# Altium footprint library SparkFun-Connectors.PCBLIB: 310 footprints (part 14 of 20)
Each footprint in its own frame and in the unit in brackets; x right, y up, seen from the top. Pads: shape width x height; smd on the part's side, far side on the other; paste and mask are expansions set on the pad; w line width, h text height; cw(c..) or ccw(c..) is an arc to the next point about the centre after c.
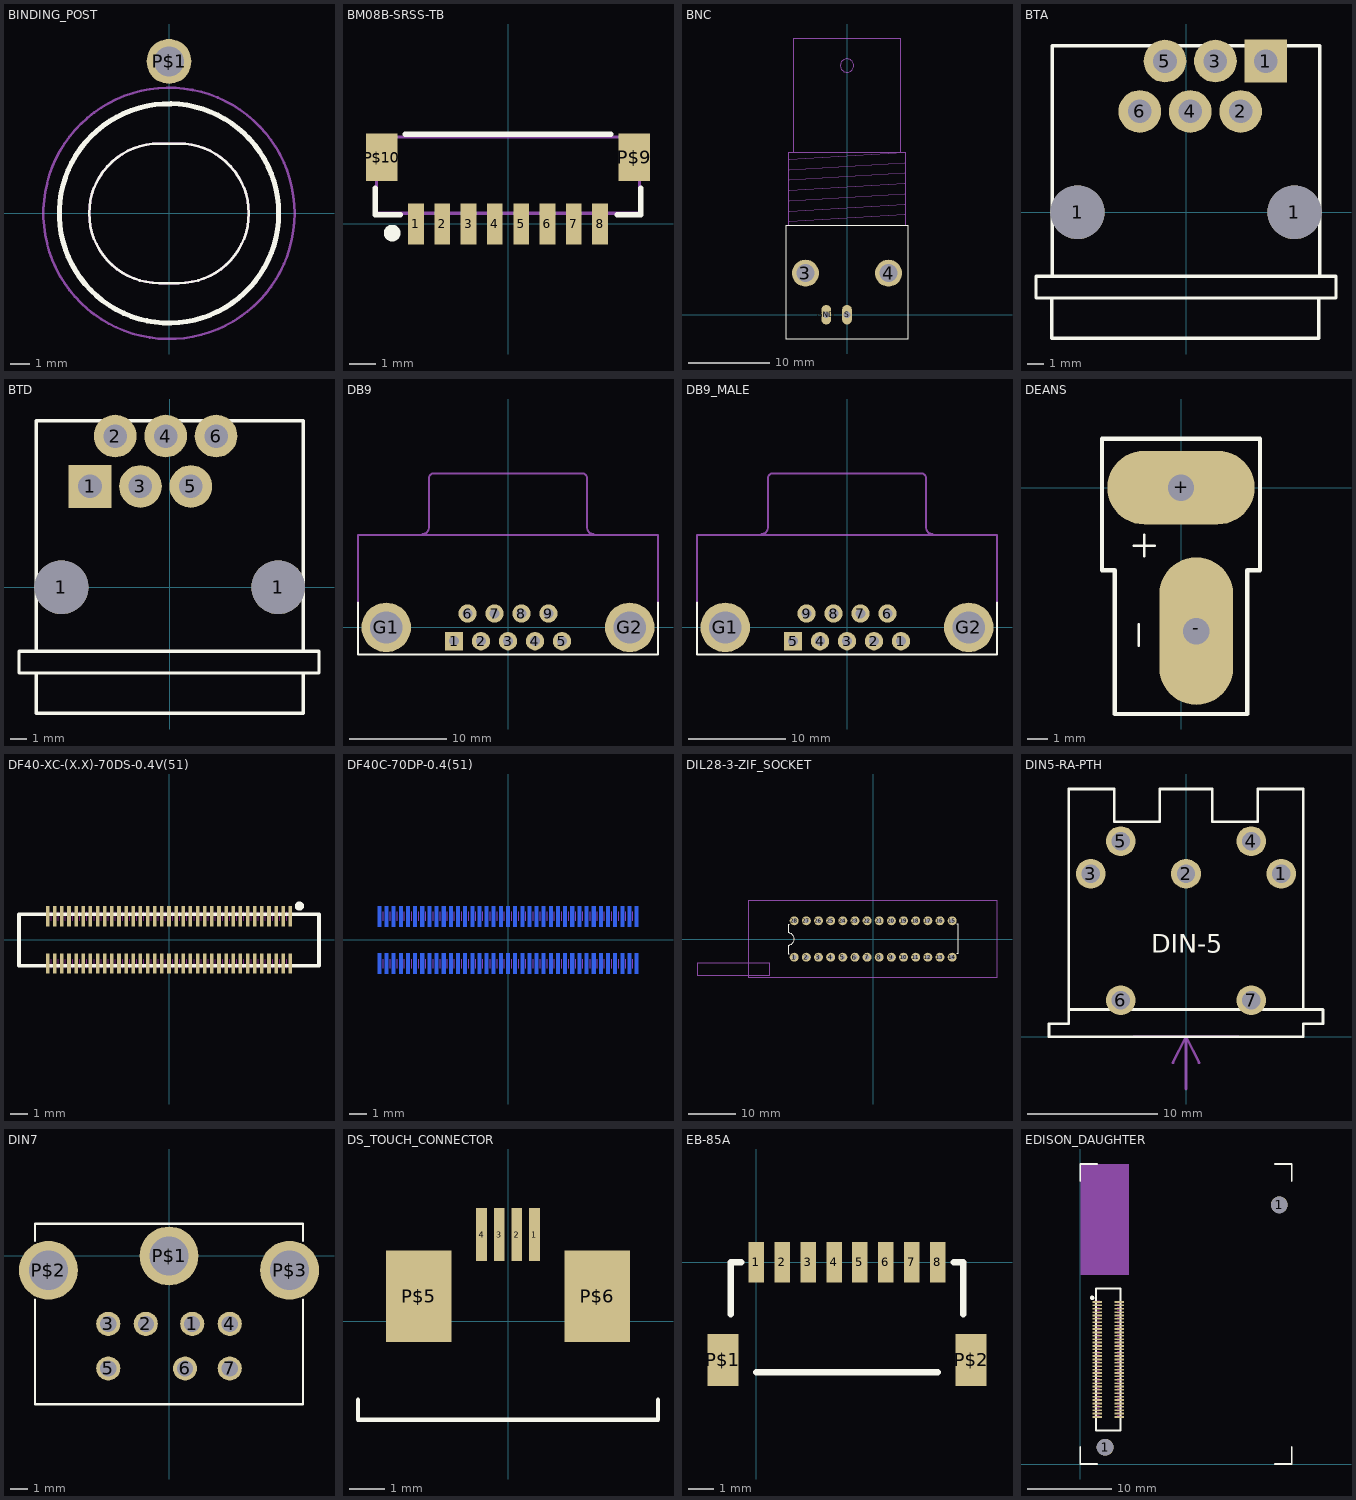
[diagram p13: the footprints below, top view; thin cyan lines are the x and y axes]

## BINDING_POST [mil]
pads (1):
  round 88.59 hole 59.06: P$1(0,300)
Top Overlay:
  circle w10: c0,0 r216.54
  lines w5: -157.48,0 cw(c-19.68,0.01) -19.69,137.8 19.69,137.8 cw(c19.68,0.01) 157.48,0 cw(c19.68,-0.01) 19.69,-137.8 -19.69,-137.8 cw(c-19.68,-0.01) -157.48,0
Mechanical 1:
  lines w5: -157.48,0 cw(c-19.68,0.01) -19.69,137.8 19.69,137.8 cw(c19.68,0.01) 157.48,0 cw(c19.68,-0.01) 19.69,-137.8 -19.69,-137.8 cw(c-19.68,-0.01) -157.48,0
Mechanical 27:
  circle w5: c0,0 r216.54
Mechanical 28:
  circle w5: c0,0 r248.06

## BM08B-SRSS-TB [mm]
pads (10):
  rect 0.6x1.55 smd: 1(-3.5,0) 2(-2.5,0) 3(-1.5,0) 4(-0.5,0) 5(0.5,0) 6(1.5,0) 7(2.5,0) 8(3.5,0)
  rect 1.2x1.8 smd: P$9(4.8,2.525) P$10(-4.8,2.525)
Top Overlay:
  circle w0.406: c-4.4,-0.35 r0.112
  lines w0.203: -5.05,1.35 -5.05,0.35 -4.1,0.35 ; -3.9,3.4 3.9,3.4 ; 4.15,0.35 5.05,0.35 5.05,1.35
Mechanical 16:
  lines w0.127: -5,0.4 -5,3.3 5,3.3 5,0.4 -5,0.4

## BNC [mil]
pads (4):
  round 129.91 hole 86.61: 3(-200,200) 4(200,200)
  oval 47.25x94.5 hole 31.5: GND(-100,0) S(0,0)
Top Overlay:
  lines w5: -295,-117 295,-117 295,428 -295,428 -295,-117
Mechanical 16:
  circle w5: c0,1200 r32.2
  lines w5: -280,428 -280,783 -260,783 ; -279,449 279,483 ; -279,499 279,533 ; -279,549 279,583 ; -279,599 279,633 ; -279,649 279,683 ; -279,699 279,733 ; -279,749 279,783 ; 280,428 280,783 279,783 ; -260,783 260,783 ; -260,783 -260,1328 260,1328 260,783 ; 260,783 279,783

## BTA [mm]
pads (8):
  round 3.2 hole 3.2: 1(-6.45,0) 1(6.45,0)
  rect 2.54x2.54 hole 1.4: 1(4.75,9)
  round 2.54 hole 1.4: 2(3.25,6) 3(1.75,9) 4(0.25,6) 5(-1.25,9) 6(-2.75,6)
Top Overlay:
  lines w0.203: -8,-5.1 -8,-7.5 7.9,-7.5 7.9,-5.1 ; -8,-5.1 -8.925,-5.1 -8.925,-3.8 -7.95,-3.8 ; -8,-5.1 7.9,-5.1 ; -7.95,-3.8 -7.95,9.9 7.95,9.9 7.95,-3.8 ; -7.95,-3.8 7.95,-3.8 ; 7.9,-5.1 8.925,-5.1 8.925,-3.8 7.95,-3.8

## BTD [mm]
pads (8):
  round 3.2 hole 3.2: 1(-6.45,0) 1(6.45,0)
  rect 2.54x2.54 hole 1.4: 1(-4.75,6)
  round 2.54 hole 1.4: 2(-3.25,9) 3(-1.75,6) 4(-0.25,9) 5(1.25,6) 6(2.75,9)
Top Overlay:
  lines w0.203: -7.95,-5.1 -8.975,-5.1 -8.975,-3.8 -7.95,-3.8 ; -7.95,-5.1 7.95,-5.1 ; -7.95,-5.1 -7.95,-7.5 7.95,-7.5 7.95,-5.1 ; -7.95,-3.8 -7.95,9.9 7.95,9.9 7.95,-3.8 ; -7.95,-3.8 7.95,-3.8 ; 7.95,-5.1 8.875,-5.1 8.875,-3.8 7.95,-3.8

## DB9 [mil]
pads (11):
  rect 74x74 hole 40: 1(-218.11,-55.91)
  round 74 hole 40: 2(-109.06,-55.91) 3(0,-55.91) 4(109.06,-55.91) 5(218.11,-55.91) 6(-163.39,55.91) 7(-54.33,55.91) 8(54.33,55.91) 9(163.39,55.91)
  round 200 hole 130: G1(-492.13,0) G2(492.13,0)
Top Overlay:
  lines w8: -606.3,100 -606.3,-110.24 606.3,-110.24 606.3,100
Mechanical 16:
  lines w8: -606.3,100.1 -606.3,374.02 606.3,374.02 606.3,100 ; -345,377.32 ccw(c-345,402.32) -320,402.32 -320,602.32 cw(c-300,602.32) -300,622.32 300,622.32 cw(c300,602.32) 320,602.32 320,402.32 ccw(c345,402.32) 345,377.32

## DB9_MALE [mil]
pads (11):
  round 74 hole 40: 1(218.11,-55.91) 2(109.06,-55.91) 3(0,-55.91) 4(-109.06,-55.91) 6(163.39,55.91) 7(54.33,55.91) 8(-54.33,55.91) 9(-163.39,55.91)
  rect 74x74 hole 40: 5(-218.11,-55.91)
  round 200 hole 130: G1(-492.13,0) G2(492.13,0)
Top Overlay:
  lines w8: -606.3,100 -606.3,-110.24 606.3,-110.24 606.3,100
Mechanical 16:
  lines w8: -606.3,100.1 -606.3,374.02 606.3,374.02 606.3,100 ; -345,377.32 ccw(c-345,402.32) -320,402.32 -320,602.32 cw(c-300,602.32) -300,622.32 300,622.32 cw(c300,602.32) 320,602.32 320,402.32 ccw(c345,402.32) 345,377.32

## DEANS [mil]
pads (2):
  oval 280x140 hole 50: +(0,0)
  oval 140x280 hole 50: -(29,-272.5)
Top Overlay:
  lines w5: -90,-110 -50,-110 ; -80,-300 -80,-260 ; -70,-130 -70,-90
  lines w8: -150,-157 -150,93 150,93 150,-157 126,-157 126,-430 -126,-430 -126,-157 -150,-157
Mechanical 1:
  lines w5: -112,-27 112,-27 112,27 -112,27 -112,-27 ; 2,-384 2,-160 56,-160 56,-384 2,-384

## DF40-XC-(X.X)-70DS-0.4V(51) [mm]
pads (70):
  rect 0.2x1.14 smd: 1(6.8,1.32) 2(6.8,-1.32) 3(6.4,1.32) 4(6.4,-1.32) 5(6,1.32) 6(6,-1.32) 7(5.6,1.32) 8(5.6,-1.32) 9(5.2,1.32) 10(5.2,-1.32) 11(4.8,1.32) 12(4.8,-1.32) 13(4.4,1.32) 14(4.4,-1.32) 15(4,1.32) 16(4,-1.32) 17(3.6,1.32) 18(3.6,-1.32) 19(3.2,1.32) 20(3.2,-1.32) 21(2.8,1.32) 22(2.8,-1.32) 23(2.4,1.32) 24(2.4,-1.32) 25(2,1.32) 26(2,-1.32) 27(1.6,1.32) 28(1.6,-1.32) 29(1.2,1.32) 30(1.2,-1.32) 31(0.8,1.32) 32(0.8,-1.32) 33(0.4,1.32) 34(0.4,-1.32) 35(0,1.32) 36(0,-1.32) 37(-0.4,1.32) 38(-0.4,-1.32) 39(-0.8,1.32) 40(-0.8,-1.32) 41(-1.2,1.32) 42(-1.2,-1.32) 43(-1.6,1.32) 44(-1.6,-1.32) 45(-2,1.32) 46(-2,-1.32) 47(-2.4,1.32) 48(-2.4,-1.32) 49(-2.8,1.32) 50(-2.8,-1.32) 51(-3.2,1.32) 52(-3.2,-1.32) 53(-3.6,1.32) 54(-3.6,-1.32) 55(-4,1.32) 56(-4,-1.32) 57(-4.4,1.32) 58(-4.4,-1.32) 59(-4.8,1.32) 60(-4.8,-1.32) 61(-5.2,1.32) 62(-5.2,-1.32) 63(-5.6,1.32) 64(-5.6,-1.32) 65(-6,1.32) 66(-6,-1.32) 67(-6.4,1.32) 68(-6.4,-1.32) 69(-6.8,1.32) 70(-6.8,-1.32)
Top Layer keep-out:
  lines w0.051: -6.6,-1.581 -6.6,-1.069 ; -6.6,1.064 -6.6,1.576 ; -6.2,-1.581 -6.2,-1.069 ; -6.2,1.064 -6.2,1.576 ; -5.8,-1.581 -5.8,-1.069 ; -5.8,1.064 -5.8,1.576 ; -5.4,-1.581 -5.4,-1.069 ; -5.4,1.064 -5.4,1.576 ; -5,-1.581 -5,-1.069 ; -5,1.064 -5,1.576 ; -4.6,-1.581 -4.6,-1.069 ; -4.6,1.064 -4.6,1.576 ; -4.2,-1.581 -4.2,-1.069 ; -4.2,1.064 -4.2,1.576 ; -3.8,-1.581 -3.8,-1.069 ; -3.8,1.064 -3.8,1.576 ; -3.4,-1.581 -3.4,-1.069 ; -3.4,1.064 -3.4,1.576 ; -3,-1.581 -3,-1.069 ; -3,1.064 -3,1.576 ; -2.6,-1.581 -2.6,-1.069 ; -2.6,1.064 -2.6,1.576 ; -2.2,-1.581 -2.2,-1.069 ; -2.2,1.064 -2.2,1.576 ; -1.8,-1.581 -1.8,-1.069 ; -1.8,1.064 -1.8,1.576 ; -1.4,-1.581 -1.4,-1.069 ; -1.4,1.064 -1.4,1.576 ; -1,-1.581 -1,-1.069 ; -1,1.064 -1,1.576 ; -0.6,-1.581 -0.6,-1.069 ; -0.6,1.064 -0.6,1.576 ; -0.2,-1.581 -0.2,-1.069 ; -0.2,1.064 -0.2,1.576 ; 0.2,-1.581 0.2,-1.069 ; 0.2,1.064 0.2,1.576 ; 0.6,-1.581 0.6,-1.069 ; 0.6,1.064 0.6,1.576 ; 1,-1.581 1,-1.069 ; 1,1.064 1,1.576 ; 1.4,-1.581 1.4,-1.069 ; 1.4,1.064 1.4,1.576 ; 1.8,-1.581 1.8,-1.069 ; 1.8,1.064 1.8,1.576 ; 2.2,-1.581 2.2,-1.069 ; 2.2,1.064 2.2,1.576 ; 2.6,-1.581 2.6,-1.069 ; 2.6,1.064 2.6,1.576 ; 3,-1.581 3,-1.069 ; 3,1.064 3,1.576 ; 3.4,-1.581 3.4,-1.069 ; 3.4,1.064 3.4,1.576 ; 3.8,-1.581 3.8,-1.069 ; 3.8,1.064 3.8,1.576 ; 4.2,-1.581 4.2,-1.069 ; 4.2,1.064 4.2,1.576 ; 4.6,-1.581 4.6,-1.069 ; 4.6,1.064 4.6,1.576 ; 5,-1.581 5,-1.069 ; 5,1.064 5,1.576 ; 5.4,-1.581 5.4,-1.069 ; 5.4,1.064 5.4,1.576 ; 5.8,-1.581 5.8,-1.069 ; 5.8,1.064 5.8,1.576 ; 6.2,-1.581 6.2,-1.069 ; 6.2,1.064 6.2,1.576 ; 6.6,-1.581 6.6,-1.069 ; 6.6,1.064 6.6,1.576
Top Overlay:
  circle w0.305: c7.3,1.9 r0.1
  lines w0.203: -8.4,-1.44 8.4,-1.44 8.4,1.44 -8.4,1.44 -8.4,-1.44

## DF40C-70DP-0.4(51) [mm]
pads (74):
  rect 0.2x1.14 smd far side: 1(6.8,1.32) 2(6.8,-1.32) 3(6.4,1.32) 4(6.4,-1.32) 5(6,1.32) 6(6,-1.32) 7(5.6,1.32) 8(5.6,-1.32) 9(5.2,1.32) 10(5.2,-1.32) 11(4.8,1.32) 12(4.8,-1.32) 13(4.4,1.32) 14(4.4,-1.32) 15(4,1.32) 16(4,-1.32) 17(3.6,1.32) 18(3.6,-1.32) 19(3.2,1.32) 20(3.2,-1.32) 21(2.8,1.32) 22(2.8,-1.32) 23(2.4,1.32) 24(2.4,-1.32) 25(2,1.32) 26(2,-1.32) 27(1.6,1.32) 28(1.6,-1.32) 29(1.2,1.32) 30(1.2,-1.32) 31(0.8,1.32) 32(0.8,-1.32) 33(0.4,1.32) 34(0.4,-1.32) 35(0,1.32) 36(0,-1.32) 37(-0.4,1.32) 38(-0.4,-1.32) 39(-0.8,1.32) 40(-0.8,-1.32) 41(-1.2,1.32) 42(-1.2,-1.32) 43(-1.6,1.32) 44(-1.6,-1.32) 45(-2,1.32) 46(-2,-1.32) 47(-2.4,1.32) 48(-2.4,-1.32) 49(-2.8,1.32) 50(-2.8,-1.32) 51(-3.2,1.32) 52(-3.2,-1.32) 53(-3.6,1.32) 54(-3.6,-1.32) 55(-4,1.32) 56(-4,-1.32) 57(-4.4,1.32) 58(-4.4,-1.32) 59(-4.8,1.32) 60(-4.8,-1.32) 61(-5.2,1.32) 62(-5.2,-1.32) 63(-5.6,1.32) 64(-5.6,-1.32) 65(-6,1.32) 66(-6,-1.32) 67(-6.4,1.32) 68(-6.4,-1.32) 69(-6.8,1.32) 70(-6.8,-1.32) NC1(7.2,1.32) NC2(7.2,-1.32) NC3(-7.2,-1.32) NC4(-7.2,1.32)
Bottom Layer keep-out:
  lines w0.051: -7,-1.581 -7,-1.069 ; -7,1.064 -7,1.576 ; -6.6,-1.581 -6.6,-1.069 ; -6.6,1.064 -6.6,1.576 ; -6.2,-1.581 -6.2,-1.069 ; -6.2,1.064 -6.2,1.576 ; -5.8,-1.581 -5.8,-1.069 ; -5.8,1.064 -5.8,1.576 ; -5.4,-1.581 -5.4,-1.069 ; -5.4,1.064 -5.4,1.576 ; -5,-1.581 -5,-1.069 ; -5,1.064 -5,1.576 ; -4.6,-1.581 -4.6,-1.069 ; -4.6,1.064 -4.6,1.576 ; -4.2,-1.581 -4.2,-1.069 ; -4.2,1.064 -4.2,1.576 ; -3.8,-1.581 -3.8,-1.069 ; -3.8,1.064 -3.8,1.576 ; -3.4,-1.581 -3.4,-1.069 ; -3.4,1.064 -3.4,1.576 ; -3,-1.581 -3,-1.069 ; -3,1.064 -3,1.576 ; -2.6,-1.581 -2.6,-1.069 ; -2.6,1.064 -2.6,1.576 ; -2.2,-1.581 -2.2,-1.069 ; -2.2,1.064 -2.2,1.576 ; -1.8,-1.581 -1.8,-1.069 ; -1.8,1.064 -1.8,1.576 ; -1.4,-1.581 -1.4,-1.069 ; -1.4,1.064 -1.4,1.576 ; -1,-1.581 -1,-1.069 ; -1,1.064 -1,1.576 ; -0.6,-1.581 -0.6,-1.069 ; -0.6,1.064 -0.6,1.576 ; -0.2,-1.581 -0.2,-1.069 ; -0.2,1.064 -0.2,1.576 ; 0.2,-1.581 0.2,-1.069 ; 0.2,1.064 0.2,1.576 ; 0.6,-1.581 0.6,-1.069 ; 0.6,1.064 0.6,1.576 ; 1,-1.581 1,-1.069 ; 1,1.064 1,1.576 ; 1.4,-1.581 1.4,-1.069 ; 1.4,1.064 1.4,1.576 ; 1.8,-1.581 1.8,-1.069 ; 1.8,1.064 1.8,1.576 ; 2.2,-1.581 2.2,-1.069 ; 2.2,1.064 2.2,1.576 ; 2.6,-1.581 2.6,-1.069 ; 2.6,1.064 2.6,1.576 ; 3,-1.581 3,-1.069 ; 3,1.064 3,1.576 ; 3.4,-1.581 3.4,-1.069 ; 3.4,1.064 3.4,1.576 ; 3.8,-1.581 3.8,-1.069 ; 3.8,1.064 3.8,1.576 ; 4.2,-1.581 4.2,-1.069 ; 4.2,1.064 4.2,1.576 ; 4.6,-1.581 4.6,-1.069 ; 4.6,1.064 4.6,1.576 ; 5,-1.581 5,-1.069 ; 5,1.064 5,1.576 ; 5.4,-1.581 5.4,-1.069 ; 5.4,1.064 5.4,1.576 ; 5.8,-1.581 5.8,-1.069 ; 5.8,1.064 5.8,1.576 ; 6.2,-1.581 6.2,-1.069 ; 6.2,1.064 6.2,1.576 ; 6.6,-1.581 6.6,-1.069 ; 6.6,1.064 6.6,1.576 ; 7,-1.581 7,-1.069 ; 7,1.064 7,1.576
Bottom Overlay:
  circle w0.305: c7.7,1.9 r0.1
  lines w0.203: -8.4,-1.44 8.4,-1.44 8.4,1.44 -8.4,1.44 -8.4,-1.44

## DIL28-3-ZIF_SOCKET [mil]
pads (28):
  round 74 hole 40: 1(-650,-150) 2(-550,-150) 3(-450,-150) 4(-350,-150) 5(-250,-150) 6(-150,-150) 7(-50,-150) 8(50,-150) 9(150,-150) 10(250,-150) 11(350,-150) 12(450,-150) 13(550,-150) 14(650,-150) 15(650,150) 16(550,150) 17(450,150) 18(350,150) 19(250,150) 20(150,150) 21(50,150) 22(-50,150) 23(-150,150) 24(-250,150) 25(-350,150) 26(-450,150) 27(-550,150) 28(-650,150)
Top Overlay:
  lines w8: -690,-120 -700,-120 -700,-50 ccw(c-700,0) -700,50 -700,120 -690,120 ; 690,-120 700,-120 700,120 690,120
Mechanical 16:
  lines w5: -1027.99,-314.96 1019.25,-314.96 1019.25,314.96 -1027.99,314.96 -1027.99,-314.96
  lines w10: -1450,-300 -1450,-200 -850,-200 -850,-300 -1450,-300

## DIN5-RA-PTH [mil]
pads (7):
  round 90 hole 55.12: 1(287.4,492.13) 2(0,492.13) 3(-287.4,492.13) 4(196.85,590.55) 5(-196.85,590.55) 6(-196.85,110.24) 7(196.85,110.24)
Top Overlay:
  lines w8: -354.33,78.74 -354.33,39.37 -413.39,39.37 -413.39,0 354.33,0 354.33,39.37 413.39,39.37 413.39,82.68 354.33,82.68 ; 354.33,82.68 354.33,748.03 216.54,748.03 216.54,649.61 78.74,649.61 78.74,748.03 -78.74,748.03 -78.74,649.61 -216.54,649.61 -216.54,748.03 -354.33,748.03 -354.33,82.68 354.33,82.68
  text "DIN-5" at -105.12,253.54 h56.1
Mechanical 16:
  lines w8: -157.48,0 0,0 ; -39.37,-78.74 0,0 ; 0,-157.48 0,0 ; 39.37,-78.74 0,0 ; 157.48,0 0,0
  text "BOARD EDGE" at 0,-170 h27.2

## DIN7 [mil]
pads (10):
  round 53.15 hole 35.43: 1(51.18,-149.61) 2(-51.18,-149.61) 3(-133.86,-149.61) 4(133.86,-149.61) 5(-133.86,-248.03) 6(35.43,-248.03) 7(133.86,-248.03)
  round 129.91 hole 86.61: P$1(0,0) P$2(-265.75,-31.5) P$3(265.75,-31.5)
Top Overlay:
  lines w5: -295.28,-96.46 -295.28,-326.77 295.28,-326.77 295.28,-96.46 ; -295.28,33.46 -295.28,70.87 295.28,70.87 295.28,33.46

## DS_TOUCH_CONNECTOR [mm]
pads (6):
  rect 0.3x1.5 smd: 1(0.75,2.45) 2(0.25,2.45) 3(-0.25,2.45) 4(-0.75,2.45)
  rect 1.85x2.6 smd: P$5(-2.525,0.7) P$6(2.525,0.7)
Top Overlay:
  lines w0.127: -4.25,-2.23 -4.25,-2.8 4.25,-2.8 4.25,-2.23

## EB-85A [mm]
pads (10):
  rect 0.6x1.55 smd: 1(0,0) 2(1,0) 3(2,0) 4(3,0) 5(4,0) 6(5,0) 7(6,0) 8(7,0)
  rect 1.2x2 smd: P$1(-1.3,-3.775) P$2(8.3,-3.775)
Top Overlay:
  lines w0.254: -1,-2 -1,0 -0.6,0 ; 0,-4.25 7,-4.25 ; 7.625,0 8,0 8,-2

## EDISON_DAUGHTER [mm]
pads (72):
  rect 1.14x0.2 smd: 1(1.98,19.17) 2(4.62,19.17) 3(1.98,18.77) 4(4.62,18.77) 5(1.98,18.37) 6(4.62,18.37) 7(1.98,17.97) 8(4.62,17.97) 9(1.98,17.57) 10(4.62,17.57) 11(1.98,17.17) 12(4.62,17.17) 13(1.98,16.77) 14(4.62,16.77) 15(1.98,16.37) 16(4.62,16.37) 17(1.98,15.97) 18(4.62,15.97) 19(1.98,15.57) 20(4.62,15.57) 21(1.98,15.17) 22(4.62,15.17) 23(1.98,14.77) 24(4.62,14.77) 25(1.98,14.37) 26(4.62,14.37) 27(1.98,13.97) 28(4.62,13.97) 29(1.98,13.57) 30(4.62,13.57) 31(1.98,13.17) 32(4.62,13.17) 33(1.98,12.77) 34(4.62,12.77) 35(1.98,12.37) 36(4.62,12.37) 37(1.98,11.97) 38(4.62,11.97) 39(1.98,11.57) 40(4.62,11.57) 41(1.98,11.17) 42(4.62,11.17) 43(1.98,10.77) 44(4.62,10.77) 45(1.98,10.37) 46(4.62,10.37) 47(1.98,9.97) 48(4.62,9.97) 49(1.98,9.57) 50(4.62,9.57) 51(1.98,9.17) 52(4.62,9.17) 53(1.98,8.77) 54(4.62,8.77) 55(1.98,8.37) 56(4.62,8.37) 57(1.98,7.97) 58(4.62,7.97) 59(1.98,7.57) 60(4.62,7.57) 61(1.98,7.17) 62(4.62,7.17) 63(1.98,6.77) 64(4.62,6.77) 65(1.98,6.37) 66(4.62,6.37) 67(1.98,5.97) 68(4.62,5.97) 69(1.98,5.57) 70(4.62,5.57)
  round 2 hole 2: 1(2.93,1.98) 1(23.53,30.67)
Top Layer keep-out:
  lines w0.025: 1.663,19.319 2.297,19.319
  lines w0.051: 1.724,5.77 2.236,5.77 ; 1.724,6.17 2.236,6.17 ; 1.724,6.57 2.236,6.57 ; 1.724,6.97 2.236,6.97 ; 1.724,7.37 2.236,7.37 ; 1.724,7.77 2.236,7.77 ; 1.724,8.17 2.236,8.17 ; 1.724,8.57 2.236,8.57 ; 1.724,8.97 2.236,8.97 ; 1.724,9.37 2.236,9.37 ; 1.724,9.77 2.236,9.77 ; 1.724,10.17 2.236,10.17 ; 1.724,10.57 2.236,10.57 ; 1.724,10.97 2.236,10.97 ; 1.724,11.37 2.236,11.37 ; 1.724,11.77 2.236,11.77 ; 1.724,12.17 2.236,12.17 ; 1.724,12.57 2.236,12.57 ; 1.724,12.97 2.236,12.97 ; 1.724,13.37 2.236,13.37 ; 1.724,13.77 2.236,13.77 ; 1.724,14.17 2.236,14.17 ; 1.724,14.57 2.236,14.57 ; 1.724,14.97 2.236,14.97 ; 1.724,15.37 2.236,15.37 ; 1.724,15.77 2.236,15.77 ; 1.724,16.17 2.236,16.17 ; 1.724,16.57 2.236,16.57 ; 1.724,16.97 2.236,16.97 ; 1.724,17.37 2.236,17.37 ; 1.724,17.77 2.236,17.77 ; 1.724,18.17 2.236,18.17 ; 1.724,18.57 2.236,18.57 ; 1.724,18.97 2.236,18.97 ; 4.369,5.77 4.881,5.77 ; 4.369,6.17 4.881,6.17 ; 4.369,6.57 4.881,6.57 ; 4.369,6.97 4.881,6.97 ; 4.369,7.37 4.881,7.37 ; 4.369,7.77 4.881,7.77 ; 4.369,8.17 4.881,8.17 ; 4.369,8.57 4.881,8.57 ; 4.369,8.97 4.881,8.97 ; 4.369,9.37 4.881,9.37 ; 4.369,9.77 4.881,9.77 ; 4.369,10.17 4.881,10.17 ; 4.369,10.57 4.881,10.57 ; 4.369,10.97 4.881,10.97 ; 4.369,11.37 4.881,11.37 ; 4.369,11.77 4.881,11.77 ; 4.369,12.17 4.881,12.17 ; 4.369,12.57 4.881,12.57 ; 4.369,12.97 4.881,12.97 ; 4.369,13.37 4.881,13.37 ; 4.369,13.77 4.881,13.77 ; 4.369,14.17 4.881,14.17 ; 4.369,14.57 4.881,14.57 ; 4.369,14.97 4.881,14.97 ; 4.369,15.37 4.881,15.37 ; 4.369,15.77 4.881,15.77 ; 4.369,16.17 4.881,16.17 ; 4.369,16.57 4.881,16.57 ; 4.369,16.97 4.881,16.97 ; 4.369,17.37 4.881,17.37 ; 4.369,17.77 4.881,17.77 ; 4.369,18.17 4.881,18.17 ; 4.369,18.57 4.881,18.57 ; 4.369,18.97 4.881,18.97
Top Overlay:
  circle w0.305: c1.4,19.67 r0.1
  lines w0.203: 0,2 0,0 2,0 ; 0,33.5 0,35.5 2,35.5 ; 23,0 25,0 25,2 ; 23,35.5 25,35.5 25,33.5 ; 1.86,3.97 1.86,20.77 4.74,20.77 4.74,3.97 1.86,3.97
Mechanical 27:
  region: 5.78,35.5 0,35.5 0,22.39 5.78,22.39
Mechanical 28:
  region: 5.78,35.5 0,35.5 0,22.39 5.78,22.39